# Altium schematic symbol library GENERIC_FIDUCIAL.SchLib: 1 symbol
Pins are listed as number, name and electrical type; pins without a type are passive.

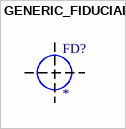
[diagram p0: symbol GENERIC_FIDUCIAL]

## GENERIC_FIDUCIAL
designator FD?  (no BOM)